# Altium schematic symbol library sym-0019.SchLib: 1 symbol
Pins are listed as number, name and electrical type; pins without a type are passive.

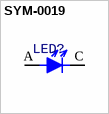
[diagram p0: symbol SYM-0019]

## SYM-0019
designator LED?
General Blue LED
pins: A, C